# Altium schematic symbol library ASVTX-09-13.00MHZ-T.SchLib: 1 symbol
Pins are listed as number, name and electrical type; pins without a type are passive.

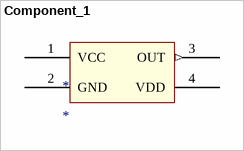
[diagram p0: symbol Component_1]

## Component_1
designator *
footprint 4-SMD
pins: 1 VCC (power), 2 GND (power), 3 OUT (out), 4 VDD (power)